# Altium footprint library usb2ttl.PcbLib: 7 footprints
Each footprint in its own frame and in the unit in brackets; x right, y up, seen from the top. Pads: shape width x height; smd on the part's side, far side on the other; paste and mask are expansions set on the pad; w line width, h text height; cw(c..) or ccw(c..) is an arc to the next point about the centre after c.
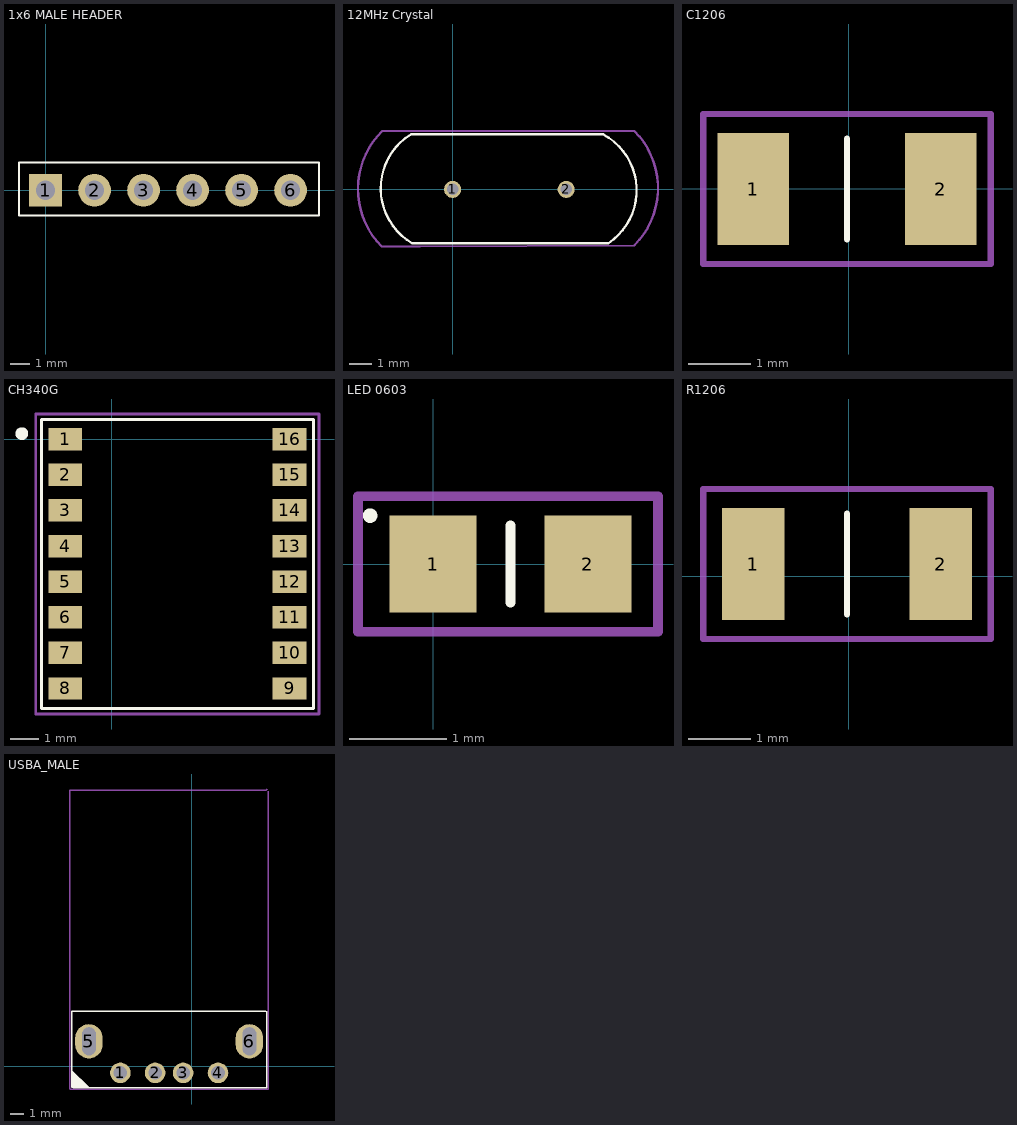
[diagram p0: the footprints below, top view; thin cyan lines are the x and y axes]

## 1x6 MALE HEADER [mm]
pads (6):
  rect 1.7x1.7 hole 1: 1(0,0)
  round 1.7 hole 1: 2(2.54,0) 3(5.08,0) 4(7.62,0) 5(10.16,0) 6(12.7,0)
Top Overlay:
  lines w0.1: -1.375,-1.3 14.175,-1.3 14.175,1.425 -1.375,1.425 -1.375,-1.3
3D body "User Library-1x6 TH Pitch 2_54mm.step": height 9.5, standoff -3.2, extent -1.245,-1.215 13.995,1.325

## 12MHz Crystal [mm]
pads (2):
  round 0.75 hole 0.5 mask+0.05: 1(0,0)
  round 0.75 hole 0.5: 2(5,0)
Top Overlay:
  lines w0.1: 6.625,2.425 -1.836,2.425 ccw(c-0.365,0.04) -1.786,-2.375 6.85,-2.375 ccw(c5.302,-0.04) 6.633,2.425
Mechanical 3:
  lines w0.1: -3.125,-2.516 cw(c-0.567,0.017) -3.1,2.575 -1.425,2.575 8,2.575 cw(c5.479,0.055) 8,-2.466 -1.45,-2.516 -3.125,-2.516
3D body "User Library-HC49S.STEP": height 3.63, standoff -1.97, extent -3.111,-2.322 8.061,2.35

## C1206 [mm]
pads (2):
  rect 1.15x1.8 smd mask+0.05: 1(-1.525,0) 2(1.475,0)
Top Overlay:
  lines w0.1: -0.025,-0.805 -0.025,0.805
Mechanical 3:
  lines w0.1: -2.325,-1.2 -2.325,1.2 2.275,1.2 2.275,-1.2 -2.325,-1.2
3D body "1206CAP.step": height 1, standoff 0, extent -1.625,-0.8 1.575,0.8

## CH340G [mm]
pads (16):
  rect 1.2x0.8 smd mask+0.1: 1(-1.65,0) 2(-1.65,-1.27) 3(-1.65,-2.54) 4(-1.65,-3.81) 5(-1.65,-5.08) 6(-1.65,-6.35) 7(-1.65,-7.62) 8(-1.65,-8.89) 9(6.35,-8.89)
  rect 1.2x0.8 smd: 10(6.35,-7.62) 11(6.35,-6.35) 12(6.35,-5.08) 13(6.35,-3.81) 14(6.35,-2.54) 15(6.35,-1.27) 16(6.35,0)
Top Overlay:
  circle w0.254: c-3.2,0.2 r0.1
  lines w0.1: -2.5,-9.6 7.2,-9.6 7.2,0.7 -2.5,0.7 -2.5,-9.6
Mechanical 3:
  lines w0.1: -2.7,-9.8 7.4,-9.8 7.4,0.9 -2.7,0.9 -2.7,-9.8
3D body "User Library-CH340G.step": height 1.5, standoff 0, extent -1.955,-9.5 6.755,0.5

## LED 0603 [mm]
pads (2):
  rect 0.9x1 smd: 1(0,0) 2(1.6,0)
Top Overlay:
  circle w0.1: c-0.65,0.5 r0.025
  lines w0.1: 0.8,-0.4 0.8,0.4
Mechanical 3:
  lines w0.1: -0.775,-0.7 2.325,-0.7 2.325,0.7 -0.775,0.7 -0.775,-0.7
3D body "ALSRobot-LED0603(G).step": height 0.6, standoff 0, extent -0.11,-0.4 1.51,0.4

## R1206 [mm]
pads (2):
  rect 1x1.8 smd mask+0.05: 1(-1.525,0.2) 2(1.475,0.2)
Top Overlay:
  lines w0.1: -0.025,-0.605 -0.025,1.005
Mechanical 3:
  lines w0.1: -2.325,-1 -2.325,1.4 2.275,1.4 2.275,-1 -2.325,-1
3D body "1206RES.step": height 0.55, standoff 0, extent -1.625,-0.605 1.575,1.005

## USBA_MALE [mm]
pads (6):
  round 1.5 hole 1 mask+0.05: 1(-5.21,-0.5) 2(-2.67,-0.5) 3(-0.63,-0.5) 4(1.91,-0.5)
  oval 2x2.5 hole 1 slot 2.05 at 90 deg paste+0: 5(-7.5,1.8) 6(4.2,1.8)
Top Overlay:
  region: -8.775,-0.275 -7.525,-1.525 -8.775,-1.525
  lines w0.1: -8.675,-1.55 -8.75,-1.55 -8.75,-1.4 -8.75,2.5 -8.75,4 5.375,4 ; -8.65,-1.575 5.45,-1.575 5.45,4
Mechanical 3:
  lines w0.1: 5.5,20.2 5.4,20.1 -8.9,20.1 -8.9,-1.5 -8.9,-1.675 -8.775,-1.675 5.575,-1.675 5.575,20.025
3D body "usb_a-usb_a-lp-c.stp": height 4.5, standoff -1.3, extent -7.953,-0.55 4.653,19.375